# Altium footprint library Ceramic Capacitor.PcbLib: 17 footprints (part 1 of 2)
Each footprint in its own frame and in the unit in brackets; x right, y up, seen from the top. Pads: shape width x height; smd on the part's side, far side on the other; paste and mask are expansions set on the pad; w line width, h text height; cw(c..) or ccw(c..) is an arc to the next point about the centre after c.
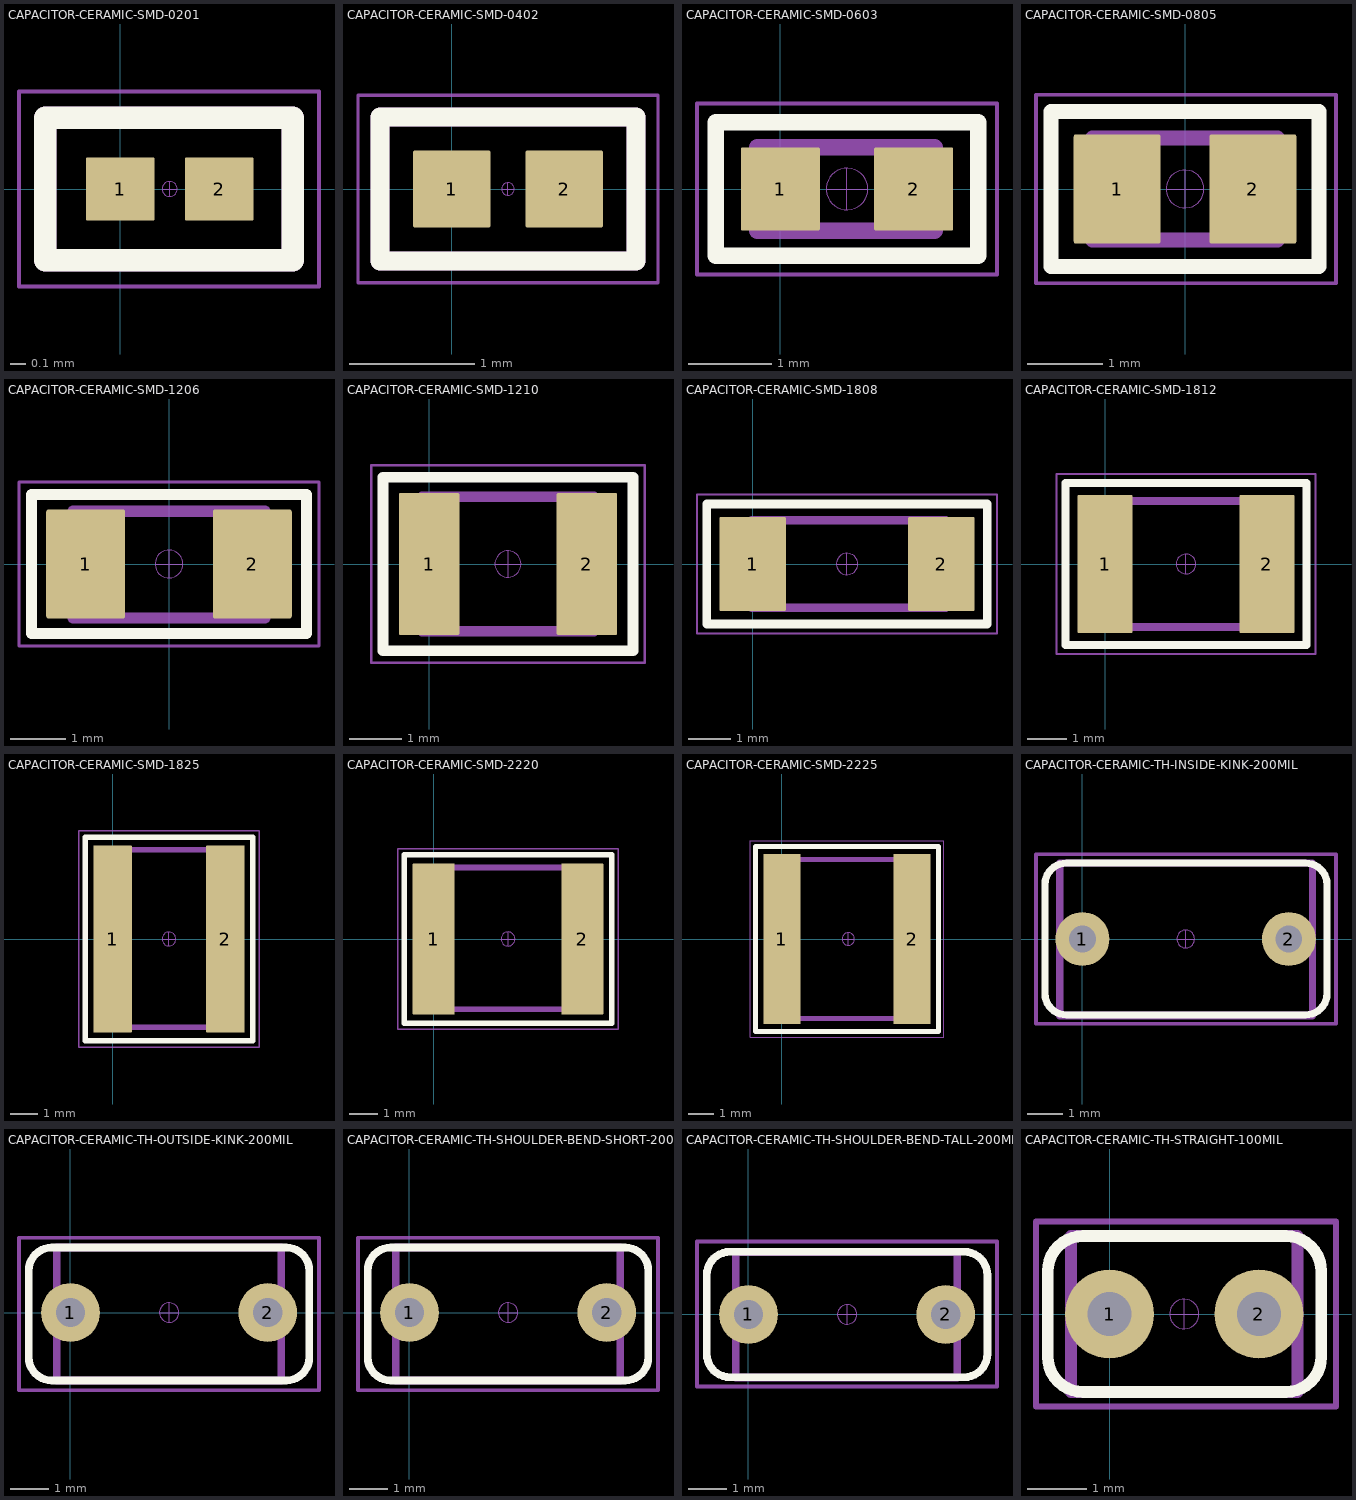
[diagram p0: the footprints below, top view; thin cyan lines are the x and y axes]

## CAPACITOR-CERAMIC-SMD-0201 [mm] "Ceramic Capacitor SMD 0201 (Metric 0603)"
height 0.3
pads (2):
  rrect5% 0.46x0.42 smd mask+0: 1(0,0) 2(0.66,0)
Top Overlay:
  lines w0.152: -0.5,-0.475 1.15,-0.475 1.15,0.475 -0.5,0.475 -0.5,-0.475
Top Component Outline:
  lines w0.152: -0.5,-0.475 1.15,-0.475 1.15,0.475 -0.5,0.475 -0.5,-0.475
  text "'.Comment'" at -1.896,-0.302 h1
Top Courtyard:
  lines w0.025: -0.675,-0.65 -0.675,0.65 1.325,0.65 1.325,-0.65 -0.675,-0.65
Top Component Center:
  circle w0.005: c0.33,0 r0.05
  lines w0.005: 0.28,0 0.33,0 ; 0.33,-0.05 0.33,0 ; 0.33,0.05 0.33,0 ; 0.38,0 0.33,0
Top Designator:
  text "'.Designator'" at -2.112,-0.224 h1
Top Assembly:
  lines w0.152: -0.5,-0.475 1.15,-0.475 1.15,0.475 -0.5,0.475 -0.5,-0.475
  text "'.Designator'" at -2.112,-0.224 h1
3D body "CAPACITOR-SMD-0201.step": height 0.3, standoff 0, extent 0.03,-0.15 0.63,0.15

## CAPACITOR-CERAMIC-SMD-0402 [mm] "Ceramic Capacitor SMD 0402 (Metric 1005)"
height 0.5
pads (2):
  rrect5% 0.62x0.62 smd mask+0: 1(0,0) 2(0.9,0)
Top Overlay:
  lines w0.152: -0.575,-0.575 -0.575,0.575 1.475,0.575 1.475,-0.575 -0.575,-0.575
Top Component Outline:
  lines w0.152: -0.575,-0.575 -0.575,0.575 1.475,0.575 1.475,-0.575 -0.575,-0.575
  text "'.Comment'" at -1.776,-0.302 h1
Top Courtyard:
  lines w0.025: -0.75,-0.75 1.65,-0.75 1.65,0.75 -0.75,0.75 -0.75,-0.75
Top Component Center:
  circle w0.005: c0.45,0 r0.05
  lines w0.005: 0.4,0 0.45,0 ; 0.45,-0.05 0.45,0 ; 0.45,0.05 0.45,0 ; 0.5,0 0.45,0
Top Designator:
  text "'.Designator'" at -1.992,-0.224 h1
Top Assembly:
  lines w0.152: -0.575,-0.575 -0.575,0.575 1.475,0.575 1.475,-0.575 -0.575,-0.575
  text "'.Designator'" at -1.992,-0.224 h1
3D body "CAPACITOR-SMD-0402.step": height 0.5, standoff 0, extent -0.05,-0.25 0.95,0.25

## CAPACITOR-CERAMIC-SMD-0603 [mm] "Ceramic Capacitor SMD 0603 (Metric 1608)"
height 0.8
pads (2):
  rrect5% 0.95x1 smd mask+0.05: 1(0,0) 2(1.6,0)
Top Overlay:
  lines w0.2: -0.775,-0.8 -0.775,0.8 2.375,0.8 2.375,-0.8 -0.775,-0.8
Top Component Outline:
  lines w0.2: -0.275,-0.5 1.85,-0.5 1.85,0.5 -0.275,0.5 -0.275,-0.5
  text "'.Comment'" at -1.426,-0.577 h1
Top Courtyard:
  lines w0.05: -1,-1.025 -1,1.025 2.6,1.025 2.6,-1.025 -1,-1.025
Top Component Center:
  circle w0.012: c0.8,0 r0.25
  lines w0.012: 0.55,0 0.8,0 ; 0.8,-0.25 0.8,0 ; 0.8,0.25 0.8,0 ; 1.05,0 0.8,0
Top Designator:
  text "'.Designator'" at -1.642,-0.224 h1
Top Assembly:
  lines w0.2: -0.275,-0.5 -0.275,0.5 1.85,0.5 1.85,-0.5 -0.275,-0.5
  text "'.Designator'" at -1.642,-0.224 h1
3D body "CAPACITOR-SMD-0603.step": height 0.8, standoff 0, extent 0,-0.4 1.6,0.4

## CAPACITOR-CERAMIC-SMD-0805 [mm] "Ceramic Capacitor SMD 0805 (Metric 2012)"
height 0.88
pads (2):
  rrect5% 1.15x1.45 smd mask+0.05: 1(-0.9,0) 2(0.9,0)
Top Overlay:
  lines w0.2: -1.775,-1.025 -1.775,1.025 1.775,1.025 1.775,-1.025 -1.775,-1.025
Top Component Outline:
  lines w0.2: -1.225,-0.675 1.2,-0.675 1.2,0.675 -1.225,0.675 -1.225,-0.675
  text "'.Comment'" at -2.226,-0.577 h1
Top Courtyard:
  lines w0.05: -1.975,-1.25 -1.975,1.25 2,1.25 2,-1.25 -1.975,-1.25
Top Component Center:
  circle w0.012: c0,0 r0.25
  lines w0.012: -0.25,0 0,0 ; 0,-0.25 0,0 ; 0,0.25 0,0 ; 0.25,0 0,0
Top Designator:
  text "'.Designator'" at -2.442,-0.224 h1
Top Assembly:
  lines w0.2: -1.225,-0.675 -1.225,0.675 1.225,0.675 1.225,-0.675 -1.225,-0.675
  text "'.Designator'" at -2.442,-0.224 h1
3D body "CAPACITOR-SMD-0805.step": height 0.88, standoff 0, extent -1,-0.625 1,0.625

## CAPACITOR-CERAMIC-SMD-1206 [mm] "Ceramic Capacitor SMD 1206 (Metric 3216)"
height 0.78
pads (2):
  rrect5% 1.42x1.96 smd mask+0.05: 1(-1.5,0) 2(1.5,0)
Top Overlay:
  lines w0.2: -2.475,-1.25 2.475,-1.25 2.475,1.25 -2.475,1.25 -2.475,-1.25
Top Component Outline:
  lines w0.2: -1.725,-0.975 -1.725,0.95 1.725,0.95 1.725,-0.975 -1.725,-0.975
  text "'.Comment'" at -2.226,-0.652 h1
Top Courtyard:
  lines w0.05: -2.7,-1.475 2.7,-1.475 2.7,1.475 -2.7,1.475 -2.7,-1.475
Top Component Center:
  circle w0.012: c0,0 r0.25
  lines w0.012: -0.25,0 0,0 ; 0,-0.25 0,0 ; 0,0.25 0,0 ; 0.25,0 0,0
Top Designator:
  text "'.Designator'" at -2.442,-0.224 h1
Top Assembly:
  lines w0.2: -1.725,-0.975 1.725,-0.975 1.725,0.95 -1.725,0.95 -1.725,-0.975
  text "'.Designator'" at -2.442,-0.224 h1
3D body "CAPACITOR-SMD-1206.step": height 1.6, standoff 0, extent -1.65,-0.975 1.65,0.975

## CAPACITOR-CERAMIC-SMD-1210 [mm] "Ceramic Capacitor SMD 1210 (Metric 3225)"
height 0.78
pads (2):
  rrect5% 1.15x2.7 smd mask+0.05: 1(0,0) 2(3,0)
Top Overlay:
  lines w0.2: -0.875,-1.65 -0.875,1.65 3.875,1.65 3.875,-1.65 -0.875,-1.65
Top Component Outline:
  lines w0.2: -0.125,-1.275 3.125,-1.275 3.125,1.275 -0.125,1.275 -0.125,-1.275
  text "'.Comment'" at -0.726,-1.077 h1
Top Courtyard:
  lines w0.05: -1.1,-1.875 -1.1,1.875 4.1,1.875 4.1,-1.875 -1.1,-1.875
Top Component Center:
  circle w0.012: c1.5,0 r0.25
  lines w0.012: 1.25,0 1.5,0 ; 1.5,-0.25 1.5,0 ; 1.5,0.25 1.5,0 ; 1.75,0 1.5,0
Top Designator:
  text "'.Designator'" at -0.942,-0.224 h1
Top Assembly:
  lines w0.2: -0.125,-1.275 -0.125,1.275 3.125,1.275 3.125,-1.275 -0.125,-1.275
  text "'.Designator'" at -0.942,-0.224 h1
3D body "CAPACITOR-SMD-1210.step": height 0.78, standoff 0, extent -0.1,-1.25 3.1,1.25

## CAPACITOR-CERAMIC-SMD-1808 [mm] "Ceramic Capacitor SMD 1808 (Metric 4520)"
height 0.902
pads (2):
  rrect5% 1.55x2.2 smd mask+0.05: 1(0,0) 2(4.4,0)
Top Overlay:
  lines w0.2: -1.075,-1.4 -1.075,1.4 5.475,1.4 5.475,-1.4 -1.075,-1.4
Top Component Outline:
  lines w0.2: -0.025,-1.025 4.475,-1.025 4.475,1.025 -0.025,1.025 -0.025,-1.025
  text "'.Comment'" at -0.026,-0.852 h1
Top Courtyard:
  lines w0.05: -1.3,-1.625 5.7,-1.625 5.7,1.625 -1.3,1.625 -1.3,-1.625
Top Component Center:
  circle w0.012: c2.2,0 r0.25
  lines w0.012: 1.95,0 2.2,0 ; 2.2,-0.25 2.2,0 ; 2.2,0.25 2.2,0 ; 2.45,0 2.2,0
Top Designator:
  text "'.Designator'" at -0.242,-0.224 h1
Top Assembly:
  lines w0.2: -0.025,-1.025 -0.025,1.025 4.5,1.025 4.5,-1.025 -0.025,-1.025
  text "'.Designator'" at -0.242,-0.224 h1
3D body "CAPACITOR-SMD-1808.step": height 0.9, standoff 0, extent -0.05,-1 4.45,1

## CAPACITOR-CERAMIC-SMD-1812 [mm] "Ceramic Capacitor SMD 1812 (Metric 4532)"
height 1
pads (2):
  rrect5% 1.4x3.5 smd mask+0.05: 1(0,0) 2(4.1,0)
Top Overlay:
  lines w0.2: -1,-2.05 -1,2.05 5.1,2.05 5.1,-2.05 -1,-2.05
Top Component Outline:
  lines w0.2: -0.225,-1.6 4.325,-1.6 4.325,1.6 -0.225,1.6 -0.225,-1.6
  text "'.Comment'" at -0.176,-1.177 h1
Top Courtyard:
  lines w0.05: -1.225,-2.275 -1.225,2.275 5.325,2.275 5.325,-2.275 -1.225,-2.275
Top Component Center:
  circle w0.012: c2.05,0 r0.25
  lines w0.012: 1.8,0 2.05,0 ; 2.05,-0.25 2.05,0 ; 2.05,0.25 2.05,0 ; 2.3,0 2.05,0
Top Designator:
  text "'.Designator'" at -0.392,-0.224 h1
Top Assembly:
  lines w0.2: -0.225,-1.6 -0.225,1.6 4.325,1.6 4.325,-1.6 -0.225,-1.6
  text "'.Designator'" at -0.392,-0.224 h1
3D body "CAPACITOR-SMD-1812.step": height 1, standoff 0, extent -0.2,-1.6 4.3,1.6

## CAPACITOR-CERAMIC-SMD-1825 [mm] "Ceramic Capacitor SMD 1825 (Metric 4564)"
height 1.145
pads (2):
  rrect5% 1.4x6.8 smd mask+0.05: 1(0,0) 2(4.1,0)
Top Overlay:
  lines w0.2: -1,-3.7 5.1,-3.7 5.1,3.7 -1,3.7 -1,-3.7
Top Component Outline:
  lines w0.2: -0.225,-3.2 -0.225,3.25 4.325,3.25 4.325,-3.2 -0.225,-3.2
  text "'.Comment'" at -0.176,-2.827 h1
Top Courtyard:
  lines w0.05: -1.225,-3.925 5.325,-3.925 5.325,3.925 -1.225,3.925 -1.225,-3.925
Top Component Center:
  circle w0.012: c2.05,0 r0.25
  lines w0.012: 1.8,0 2.05,0 ; 2.05,-0.25 2.05,0 ; 2.05,0.25 2.05,0 ; 2.3,0 2.05,0
Top Designator:
  text "'.Designator'" at -0.392,-0.224 h1
Top Assembly:
  lines w0.2: -0.225,-3.2 4.325,-3.2 4.325,3.25 -0.225,3.25 -0.225,-3.2
  text "'.Designator'" at -0.392,-0.224 h1
3D body "CAPACITOR-SMD-1825.step": height 1.14, standoff -0.01, extent -0.2,-3.2 4.3,3.2

## CAPACITOR-CERAMIC-SMD-2220 [mm] "Ceramic Capacitor SMD 2220 (Metric 5650)"
height 1
pads (2):
  rrect5% 1.5x5.4 smd mask+0.05: 1(0,0) 2(5.3,0)
Top Overlay:
  lines w0.2: -1.05,-3 -1.05,3 6.35,3 6.35,-3 -1.05,-3
Top Component Outline:
  lines w0.2: -0.15,-2.5 5.45,-2.5 5.45,2.55 -0.15,2.55 -0.15,-2.5
  text "'.Comment'" at 0.424,-2.202 h1
Top Courtyard:
  lines w0.05: -1.275,-3.225 6.575,-3.225 6.575,3.225 -1.275,3.225 -1.275,-3.225
Top Component Center:
  circle w0.012: c2.65,0 r0.25
  lines w0.012: 2.4,0 2.65,0 ; 2.65,-0.25 2.65,0 ; 2.65,0.25 2.65,0 ; 2.9,0 2.65,0
Top Designator:
  text "'.Designator'" at 0.208,-0.224 h1
Top Assembly:
  lines w0.2: -0.175,-2.5 -0.175,2.55 5.45,2.55 5.45,-2.5 -0.175,-2.5
  text "'.Designator'" at 0.208,-0.224 h1
3D body "CAPACITOR-SMD-2220.step": height 1, standoff 0, extent -0.15,-2.5 5.45,2.5

## CAPACITOR-CERAMIC-SMD-2225 [mm] "Ceramic Capacitor SMD 2225 (Metric 5664)"
height 1
pads (2):
  rrect5% 1.5x6.8 smd mask+0.05: 1(0,0) 2(5.2,0)
Top Overlay:
  lines w0.2: -1.05,-3.7 6.25,-3.7 6.25,3.7 -1.05,3.7 -1.05,-3.7
Top Component Outline:
  lines w0.2: -0.225,-3.175 -0.225,3.175 5.425,3.175 5.425,-3.175 -0.225,-3.175
  text "'.Comment'" at 0.374,-2.877 h1
Top Courtyard:
  lines w0.05: -1.275,-3.925 -1.275,3.925 6.475,3.925 6.475,-3.925 -1.275,-3.925
Top Component Center:
  circle w0.012: c2.65,0 r0.25
  lines w0.012: 2.4,0 2.65,0 ; 2.65,-0.25 2.65,0 ; 2.65,0.25 2.65,0 ; 2.9,0 2.65,0
Top Designator:
  text "'.Designator'" at 0.208,-0.224 h1
Top Assembly:
  lines w0.2: -0.225,-3.175 5.425,-3.175 5.425,3.175 -0.225,3.175 -0.225,-3.175
  text "'.Designator'" at 0.208,-0.224 h1
3D body "CAPACITOR-SMD-2225.step": height 1, standoff 0, extent -0.2,-3.15 5.4,3.15

## CAPACITOR-CERAMIC-TH-INSIDE-KINK-200MIL [mm] "Tantalum Capacitor TH Series C333 - Pitch 200mils, lead diam. 0.55"
height 10.046
pads (2):
  round 1.51 hole 0.75 mask+0.05: 1(0,0) 2(5.78,0)
Top Overlay:
  lines w0.2: -1.05,-1.525 ccw(c-0.45,-1.525) -0.45,-2.125 6.25,-2.125 ccw(c6.25,-1.525) 6.85,-1.525 6.85,1.525 ccw(c6.25,1.525) 6.25,2.125 -0.45,2.125 ccw(c-0.45,1.525) -1.05,1.525 -1.05,-1.525
Top Component Outline:
  lines w0.2: -0.635,-2.15 6.44,-2.15 6.44,2.125 -0.635,2.125 -0.635,-2.15
  text "'.Comment'" at 0.664,-1.727 h1
Top Courtyard:
  lines w0.1: -1.3,-2.375 -1.3,2.375 7.1,2.375 7.1,-2.375 -1.3,-2.375
Top Component Center:
  circle w0.012: c2.89,0 r0.25
  lines w0.012: 2.64,0 2.89,0 ; 2.89,-0.25 2.89,0 ; 2.89,0.25 2.89,0 ; 3.14,0 2.89,0
Top Designator:
  text "'.Designator'" at 0.448,-0.224 h1
Top Assembly:
  lines w0.2: -0.635,-2.125 6.44,-2.125 6.44,2.125 -0.635,2.125 -0.635,-2.125
  text "'.Designator'" at 0.448,-0.224 h1
3D body "CAPACITOR-TH-C333.step": height 10.05, standoff -16.61, extent -0.67,-2.05 6.44,2.025

## CAPACITOR-CERAMIC-TH-OUTSIDE-KINK-200MIL [mm] "Tantalum Capacitor TH Series C327 - Pitch 200mils, lead diam. 0.55"
height 7.772
pads (2):
  round 1.51 hole 0.75 mask+0.05: 1(0,0) 2(5.08,0)
Top Overlay:
  lines w0.2: -1.075,-1.15 ccw(c-0.475,-1.15) -0.475,-1.75 5.55,-1.75 ccw(c5.55,-1.15) 6.15,-1.15 6.15,1.075 ccw(c5.55,1.075) 5.55,1.675 -0.475,1.675 ccw(c-0.475,1.075) -1.075,1.075 -1.075,-1.15
Top Component Outline:
  lines w0.2: -0.35,-1.75 -0.35,1.675 5.425,1.675 5.425,-1.75 -0.35,-1.75
  text "'.Comment'" at 0.299,-1.527 h1
Top Courtyard:
  lines w0.1: -1.325,-2 6.4,-2 6.4,1.925 -1.325,1.925 -1.325,-2
Top Component Center:
  circle w0.012: c2.54,0 r0.25
  lines w0.012: 2.29,0 2.54,0 ; 2.54,-0.25 2.54,0 ; 2.54,0.25 2.54,0 ; 2.79,0 2.54,0
Top Designator:
  text "'.Designator'" at 0.098,-0.224 h1
Top Assembly:
  lines w0.2: -0.35,-1.75 -0.35,1.675 5.425,1.675 5.425,-1.75 -0.35,-1.75
  text "'.Designator'" at 0.098,-0.224 h1
3D body "CAPACITOR-TH-C327.step": height 7.77, standoff -16.86, extent -0.88,-1.635 5.98,1.55

## CAPACITOR-CERAMIC-TH-SHOULDER-BEND-SHORT-200MIL [mm] "Tantalum Capacitor TH Series C322 - Pitch 200mils, lead diam. 0.55"
height 6.391
pads (2):
  round 1.51 hole 0.75 mask+0.05: 1(0,0) 2(5.08,0)
Top Overlay:
  lines w0.2: -1.075,-1.15 ccw(c-0.475,-1.15) -0.475,-1.75 5.55,-1.75 ccw(c5.55,-1.15) 6.15,-1.15 6.15,1.075 ccw(c5.55,1.075) 5.55,1.675 -0.475,1.675 ccw(c-0.475,1.075) -1.075,1.075 -1.075,-1.15
Top Component Outline:
  lines w0.2: -0.35,-1.75 5.425,-1.75 5.425,1.675 -0.35,1.675 -0.35,-1.75
  text "'.Comment'" at 0.299,-1.527 h1
Top Courtyard:
  lines w0.1: -1.325,-2 -1.325,1.925 6.4,1.925 6.4,-2 -1.325,-2
Top Component Center:
  circle w0.012: c2.54,0 r0.25
  lines w0.012: 2.29,0 2.54,0 ; 2.54,-0.25 2.54,0 ; 2.54,0.25 2.54,0 ; 2.79,0 2.54,0
Top Designator:
  text "'.Designator'" at 0.098,-0.224 h1
Top Assembly:
  lines w0.2: -0.35,-1.75 5.425,-1.75 5.425,1.675 -0.35,1.675 -0.35,-1.75
  text "'.Designator'" at 0.098,-0.224 h1
3D body "CAPACITOR-TH-C322.step": height 6.39, standoff -16.71, extent -0.255,-1.61 5.335,1.575

## CAPACITOR-CERAMIC-TH-SHOULDER-BEND-TALL-200MIL [mm] "Tantalum Capacitor TH Series C323 - Pitch 200mils, lead diam. 0.55"
height 7.661
pads (2):
  round 1.51 hole 0.75 mask+0.05: 1(0,0) 2(5.08,0)
Top Overlay:
  lines w0.2: -1.072,-1.016 ccw(c-0.473,-1.016) -0.473,-1.616 5.553,-1.616 ccw(c5.553,-1.016) 6.152,-1.016 6.152,1.016 ccw(c5.553,1.016) 5.553,1.616 -0.473,1.616 ccw(c-0.473,1.016) -1.072,1.016 -1.072,-1.016
Top Component Outline:
  lines w0.2: -0.325,-1.625 -0.325,1.6 5.375,1.6 5.375,-1.625 -0.325,-1.625
  text "'.Comment'" at 0.314,-1.352 h1
Top Courtyard:
  lines w0.1: -1.325,-1.85 6.4,-1.85 6.4,1.875 -1.325,1.875 -1.325,-1.85
Top Component Center:
  circle w0.012: c2.54,0 r0.25
  lines w0.012: 2.29,0 2.54,0 ; 2.54,-0.25 2.54,0 ; 2.54,0.25 2.54,0 ; 2.79,0 2.54,0
Top Designator:
  text "'.Designator'" at 0.098,-0.224 h1
Top Assembly:
  lines w0.2: -0.325,-1.625 -0.325,1.6 5.375,1.6 5.375,-1.625 -0.325,-1.625
  text "'.Designator'" at 0.098,-0.224 h1
3D body "CAPACITOR-TH-C323.step": height 7.66, standoff -16.46, extent -0.305,-1.685 5.385,1.5

## CAPACITOR-CERAMIC-TH-STRAIGHT-100MIL [mm] "Tantalum Capacitor TH Series C315 - Pitch 100mils, lead diam. 0.55"
height 3.498
pads (2):
  round 1.51 hole 0.75 mask+0.05: 1(0,0) 2(2.54,0)
Top Overlay:
  lines w0.2: -1.05,-0.725 ccw(c-0.45,-0.725) -0.45,-1.325 3,-1.325 ccw(c3,-0.725) 3.6,-0.725 3.6,0.725 ccw(c3,0.725) 3,1.325 -0.45,1.325 ccw(c-0.45,0.725) -1.05,0.725 -1.05,-0.725
Top Component Outline:
  lines w0.2: -0.655,-1.325 3.195,-1.325 3.195,1.325 -0.655,1.325 -0.655,-1.325
  text "'.Comment'" at -0.951,-1.202 h1
Top Courtyard:
  lines w0.1: -1.25,-1.575 -1.25,1.575 3.85,1.575 3.85,-1.575 -1.25,-1.575
Top Component Center:
  circle w0.012: c1.27,0 r0.25
  lines w0.012: 1.02,0 1.27,0 ; 1.27,-0.25 1.27,0 ; 1.27,0.25 1.27,0 ; 1.52,0 1.27,0
Top Designator:
  text "'.Designator'" at -1.167,-0.224 h1
Top Assembly:
  lines w0.2: -0.655,-1.325 3.195,-1.325 3.195,1.325 -0.655,1.325 -0.655,-1.325
  text "'.Designator'" at -1.167,-0.224 h1
3D body "CAPACITOR-TH-C315.step": height 3.5, standoff -18, extent -0.635,-1.27 3.175,1.275